# EAGLE library part PINHD-4X4 (library BeCreative)
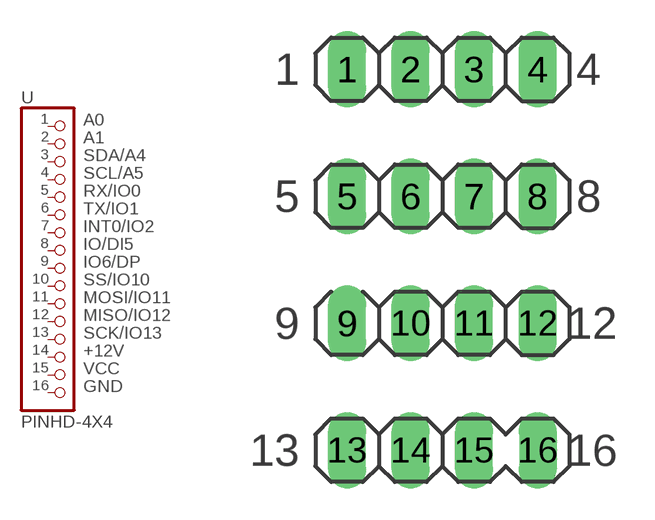
[diagram p1: symbol with the pads of 4X4; footprint 4X4]

Designator prefix -

## PINHD-4X4  [4X4]
1  1  pas
2  2  pas
3  3  pas
4  4  pas
5  5  pas
6  6  pas
7  7  pas
8  8  pas
9  9  pas
10  10  pas
11  11  pas
12  12  pas
13  13  pas
14  14  pas
15  15  pas
16  16  pas

## Footprint 4X4 (pad centres in mm)
drill 1.016 long: 1 -3.81,5.715; 2 -1.27,5.715; 3 1.27,5.715; 4 3.81,5.715; 5 -3.81,0.635; 6 -1.27,0.635; 7 1.27,0.635; 8 3.81,0.635; 9 -3.81,-4.445; 10 -1.27,-4.445; 11 1.27,-4.445; 12 3.81,-4.445; 13 -3.81,-9.525; 14 -1.27,-9.525; 15 1.27,-9.525; 16 3.81,-9.525